# Altium schematic symbol library SCH - MCU - NUVOTON - NUVOTON KM1M7AF02N.SchLib: 1 symbol
Pins are listed as number, name and electrical type; pins without a type are passive.

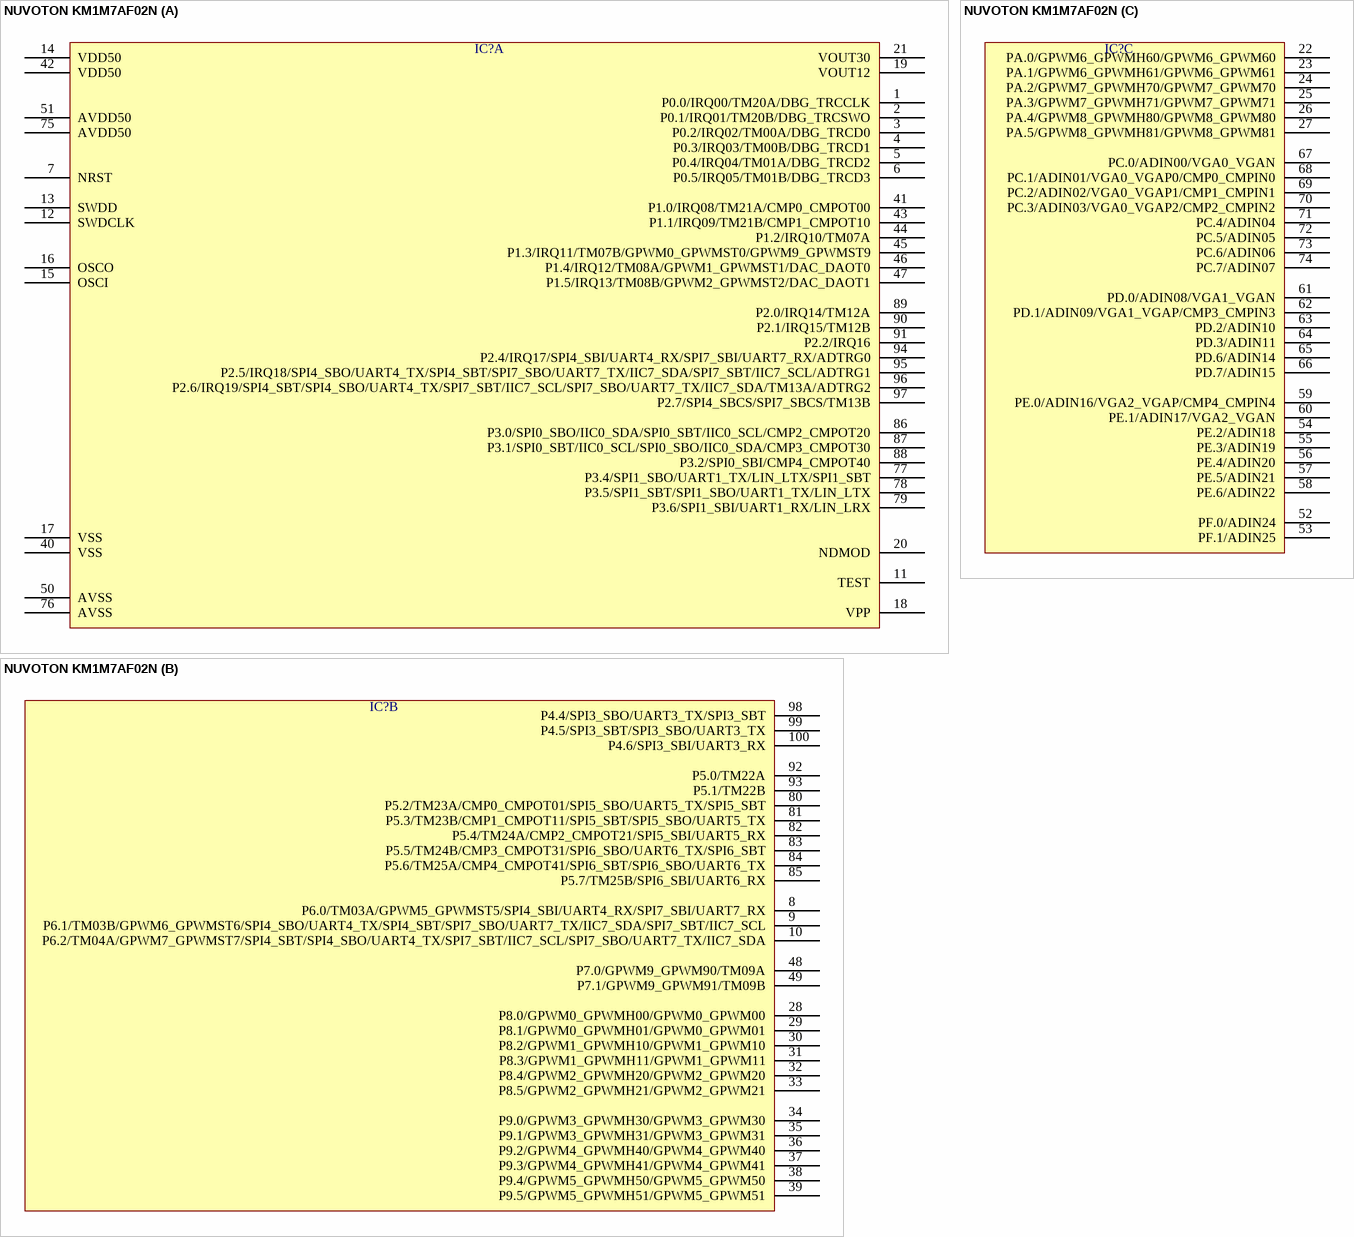
[diagram p0: symbol NUVOTON KM1M7AF02N]

## NUVOTON KM1M7AF02N
designator IC?  (value not drawn)
part A pins: 1 P0.0/IRQ00/TM20A/DBG_TRCCLK, 2 P0.1/IRQ01/TM20B/DBG_TRCSWO, 3 P0.2/IRQ02/TM00A/DBG_TRCD0, 4 P0.3/IRQ03/TM00B/DBG_TRCD1, 5 P0.4/IRQ04/TM01A/DBG_TRCD2, 6 P0.5/IRQ05/TM01B/DBG_TRCD3, 7 NRST, 11 TEST, 12 SWDCLK, 13 SWDD, 14 VDD50, 15 OSCI, 16 OSCO, 17 VSS, 18 VPP, 19 VOUT12, 20 NDMOD, 21 VOUT30, 40 VSS, 41 P1.0/IRQ08/TM21A/CMP0_CMPOT00, 42 VDD50, 43 P1.1/IRQ09/TM21B/CMP1_CMPOT10, 44 P1.2/IRQ10/TM07A, 45 P1.3/IRQ11/TM07B/GPWM0_GPWMST0/GPWM9_GPWMST9, 46 P1.4/IRQ12/TM08A/GPWM1_GPWMST1/DAC_DAOT0, 47 P1.5/IRQ13/TM08B/GPWM2_GPWMST2/DAC_DAOT1, 50 AVSS, 51 AVDD50, 75 AVDD50, 76 AVSS, 77 P3.4/SPI1_SBO/UART1_TX/LIN_LTX/SPI1_SBT, 78 P3.5/SPI1_SBT/SPI1_SBO/UART1_TX/LIN_LTX, 79 P3.6/SPI1_SBI/UART1_RX/LIN_LRX, 86 P3.0/SPI0_SBO/IIC0_SDA/SPI0_SBT/IIC0_SCL/CMP2_CMPOT20, 87 P3.1/SPI0_SBT/IIC0_SCL/SPI0_SBO/IIC0_SDA/CMP3_CMPOT30, 88 P3.2/SPI0_SBI/CMP4_CMPOT40, 89 P2.0/IRQ14/TM12A, 90 P2.1/IRQ15/TM12B, 91 P2.2/IRQ16, 94 P2.4/IRQ17/SPI4_SBI/UART4_RX/SPI7_SBI/UART7_RX/ADTRG0, 95 P2.5/IRQ18/SPI4_SBO/UART4_TX/SPI4_SBT/SPI7_SBO/UART7_TX/IIC7_SDA/SPI7_SBT/IIC7_SCL/ADTRG1, 96 P2.6/IRQ19/SPI4_SBT/SPI4_SBO/UART4_TX/SPI7_SBT/IIC7_SCL/SPI7_SBO/UART7_TX/IIC7_SDA/TM13A/ADTRG2, 97 P2.7/SPI4_SBCS/SPI7_SBCS/TM13B
part B pins: 8 P6.0/TM03A/GPWM5_GPWMST5/SPI4_SBI/UART4_RX/SPI7_SBI/UART7_RX, 9 P6.1/TM03B/GPWM6_GPWMST6/SPI4_SBO/UART4_TX/SPI4_SBT/SPI7_SBO/UART7_TX/IIC7_SDA/SPI7_SBT/IIC7_SCL, 10 P6.2/TM04A/GPWM7_GPWMST7/SPI4_SBT/SPI4_SBO/UART4_TX/SPI7_SBT/IIC7_SCL/SPI7_SBO/UART7_TX/IIC7_SDA, 28 P8.0/GPWM0_GPWMH00/GPWM0_GPWM00, 29 P8.1/GPWM0_GPWMH01/GPWM0_GPWM01, 30 P8.2/GPWM1_GPWMH10/GPWM1_GPWM10, 31 P8.3/GPWM1_GPWMH11/GPWM1_GPWM11, 32 P8.4/GPWM2_GPWMH20/GPWM2_GPWM20, 33 P8.5/GPWM2_GPWMH21/GPWM2_GPWM21, 34 P9.0/GPWM3_GPWMH30/GPWM3_GPWM30, 35 P9.1/GPWM3_GPWMH31/GPWM3_GPWM31, 36 P9.2/GPWM4_GPWMH40/GPWM4_GPWM40, 37 P9.3/GPWM4_GPWMH41/GPWM4_GPWM41, 38 P9.4/GPWM5_GPWMH50/GPWM5_GPWM50, 39 P9.5/GPWM5_GPWMH51/GPWM5_GPWM51, 48 P7.0/GPWM9_GPWM90/TM09A, 49 P7.1/GPWM9_GPWM91/TM09B, 80 P5.2/TM23A/CMP0_CMPOT01/SPI5_SBO/UART5_TX/SPI5_SBT, 81 P5.3/TM23B/CMP1_CMPOT11/SPI5_SBT/SPI5_SBO/UART5_TX, 82 P5.4/TM24A/CMP2_CMPOT21/SPI5_SBI/UART5_RX, 83 P5.5/TM24B/CMP3_CMPOT31/SPI6_SBO/UART6_TX/SPI6_SBT, 84 P5.6/TM25A/CMP4_CMPOT41/SPI6_SBT/SPI6_SBO/UART6_TX, 85 P5.7/TM25B/SPI6_SBI/UART6_RX, 92 P5.0/TM22A, 93 P5.1/TM22B, 98 P4.4/SPI3_SBO/UART3_TX/SPI3_SBT, 99 P4.5/SPI3_SBT/SPI3_SBO/UART3_TX, 100 P4.6/SPI3_SBI/UART3_RX
part C pins: 22 PA.0/GPWM6_GPWMH60/GPWM6_GPWM60, 23 PA.1/GPWM6_GPWMH61/GPWM6_GPWM61, 24 PA.2/GPWM7_GPWMH70/GPWM7_GPWM70, 25 PA.3/GPWM7_GPWMH71/GPWM7_GPWM71, 26 PA.4/GPWM8_GPWMH80/GPWM8_GPWM80, 27 PA.5/GPWM8_GPWMH81/GPWM8_GPWM81, 52 PF.0/ADIN24, 53 PF.1/ADIN25, 54 PE.2/ADIN18, 55 PE.3/ADIN19, 56 PE.4/ADIN20, 57 PE.5/ADIN21, 58 PE.6/ADIN22, 59 PE.0/ADIN16/VGA2_VGAP/CMP4_CMPIN4, 60 PE.1/ADIN17/VGA2_VGAN, 61 PD.0/ADIN08/VGA1_VGAN, 62 PD.1/ADIN09/VGA1_VGAP/CMP3_CMPIN3, 63 PD.2/ADIN10, 64 PD.3/ADIN11, 65 PD.6/ADIN14, 66 PD.7/ADIN15, 67 PC.0/ADIN00/VGA0_VGAN, 68 PC.1/ADIN01/VGA0_VGAP0/CMP0_CMPIN0, 69 PC.2/ADIN02/VGA0_VGAP1/CMP1_CMPIN1, 70 PC.3/ADIN03/VGA0_VGAP2/CMP2_CMPIN2, 71 PC.4/ADIN04, 72 PC.5/ADIN05, 73 PC.6/ADIN06, 74 PC.7/ADIN07